# Altium footprint library TO220.PcbLib: 1 footprints
Each footprint in its own frame and in the unit in brackets; x right, y up, seen from the top. Pads: shape width x height; smd on the part's side, far side on the other; paste and mask are expansions set on the pad; w line width, h text height; cw(c..) or ccw(c..) is an arc to the next point about the centre after c.
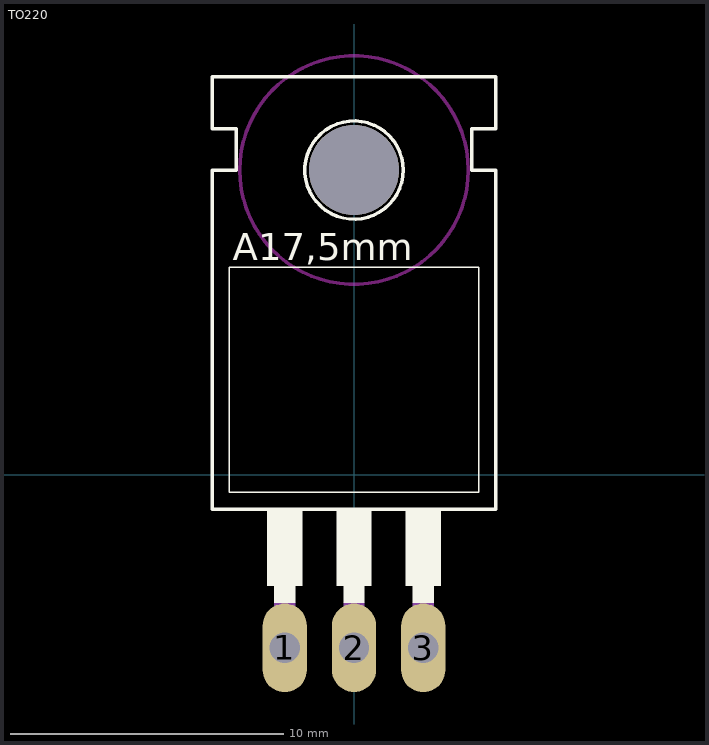
[diagram p0: the footprint, top view; thin cyan lines are the x and y axes]

## TO220 [mil]
pads (4):
  oval 64x128 hole 44: 1(-100,-250) 2(0,-250) 3(100,-250)
  round 130 hole 130 unplated: ""(0,440)
Bottom Layer:
  circle w24: c0,440 r25
Top Overlay:
  circle w5: c0,440 r71
  region: 115,-185 85,-185 85,-160 115,-160
  region: 15,-185 -15,-185 -15,-160 15,-160
  region: -85,-185 -115,-185 -115,-160 -85,-160
  region: -75,-160 -125,-160 -125,-50 -75,-50
  region: 25,-160 -25,-160 -25,-50 25,-50
  region: 125,-160 75,-160 75,-50 125,-50
  lines w2: -180,-25 180,-25 180,300 -180,300 -180,-25
  lines w5: -205,-50 205,-50 205,440 170,440 170,500 205,500 205,575 -205,575 -205,500 -170,500 -170,440 -205,440 -205,-50
  text "A17,5mm" at -175,310 h39
Keep-Out Layer:
  circle w5: c0,440 r165
  circle w5: c0,440 r165
Mechanical 13:
  region: -85,-260 -115,-260 -115,-185 -85,-185
  region: 15,-260 -15,-260 -15,-185 15,-185
  region: 115,-260 85,-260 85,-185 115,-185
  text "1" at -125,0 h50
  text "2" at -25,0 h50
  text "3" at 75,0 h50
3D body "step_temp.STEP": height 750.39, standoff -411.42, extent -202.26,-87.6 202.26,87.6